# EAGLE library part MC6821 (library apple-mini)
Motorola MC6821 Peripheral Interface Adapter (PIA) The MC6821 Peripheral Interface Adapter provides the universal means of interfacing peripheral equipment to the M6800 family of microprocessors. This device is capable of interfacing the MPU to peripherals through two 8-bit bidirectional peripheral data buses and four control lines. No external logic is required for interfacing to most peripheral devices. Source: http://www.jameco.com/Jameco/Products/ProdDS/43596MOT.pdf
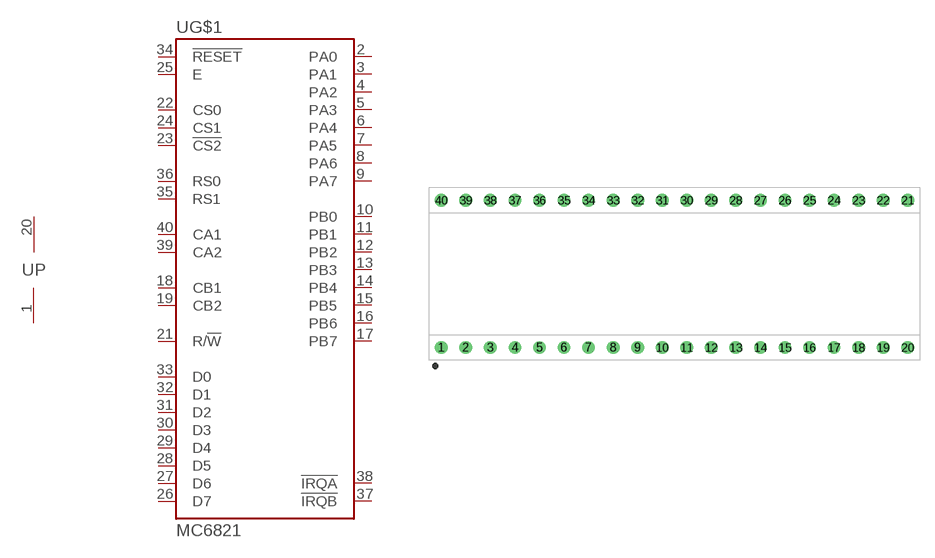
[diagram p7: symbol with the pads of DIP40; footprint DIP40]

Designator prefix U; gates G$1=MC6821 P=PWRN

## MC6821 (MFR: Motorola; MFR_PARTNO: MC6821)  [DIP40]
1  P:GND  pwr
2  G$1:PA0
3  G$1:PA1
4  G$1:PA2
5  G$1:PA3
6  G$1:PA4
7  G$1:PA5
8  G$1:PA6
9  G$1:PA7
10  G$1:PB0
11  G$1:PB1
12  G$1:PB2
13  G$1:PB3
14  G$1:PB4
15  G$1:PB5
16  G$1:PB6
17  G$1:PB7
18  G$1:CB1  in
19  G$1:CB2
20  P:VCC  pwr
21  G$1:R/!W  in
22  G$1:CS0  in
23  G$1:!CS2  in
24  G$1:CS1  in
25  G$1:E  in
26  G$1:D7
27  G$1:D6
28  G$1:D5
29  G$1:D4
30  G$1:D3
31  G$1:D2
32  G$1:D1
33  G$1:D0
34  G$1:!RESET  in
35  G$1:RS1  in
36  G$1:RS0  in
37  G$1:!IRQB  out
38  G$1:!IRQA  out
39  G$1:CA2
40  G$1:CA1  in

## Footprint DIP40 (pad centres in mm)
Dual In-line Package
drill 0.813: 1 -24.13,-7.62; 2 -21.59,-7.62; 3 -19.05,-7.62; 4 -16.51,-7.62; 5 -13.97,-7.62; 6 -11.43,-7.62; 7 -8.89,-7.62; 8 -6.35,-7.62; 9 -3.81,-7.62; 10 -1.27,-7.62; 11 1.27,-7.62; 12 3.81,-7.62; 13 6.35,-7.62; 14 8.89,-7.62; 15 11.43,-7.62; 16 13.97,-7.62; 17 16.51,-7.62; 18 19.05,-7.62; 19 21.59,-7.62; 20 24.13,-7.62; 21 24.13,7.62; 22 21.59,7.62; 23 19.05,7.62; 24 16.51,7.62; 25 13.97,7.62; 26 11.43,7.62; 27 8.89,7.62; 28 6.35,7.62; 29 3.81,7.62; 30 1.27,7.62; 31 -1.27,7.62; 32 -3.81,7.62; 33 -6.35,7.62; 34 -8.89,7.62; 35 -11.43,7.62; 36 -13.97,7.62; 37 -16.51,7.62; 38 -19.05,7.62; 39 -21.59,7.62; 40 -24.13,7.62